# Altium footprint library 42PinJunctionBox.PcbLib: 3 footprints
Each footprint in its own frame and in the unit in brackets; x right, y up, seen from the top. Pads: shape width x height; smd on the part's side, far side on the other; paste and mask are expansions set on the pad; w line width, h text height; cw(c..) or ccw(c..) is an arc to the next point about the centre after c.
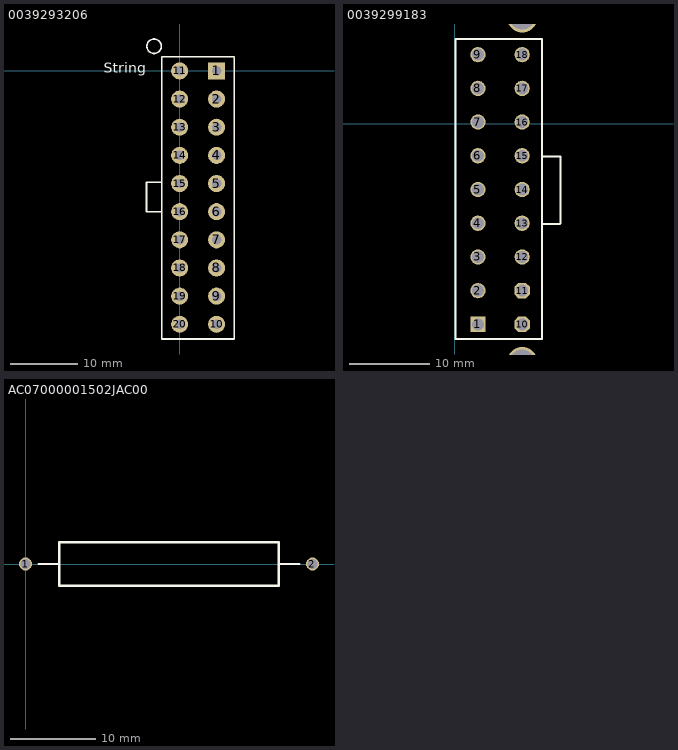
[diagram p0: the footprints below, top view; thin cyan lines are the x and y axes]

## 0039293206 [mil]
pads (20):
  rect 100x100 hole 55: 1(217,0)
  round 100 hole 55: 2(217,-165.4) 3(217,-330.8) 4(217,-496.2) 5(217,-661.6) 6(217,-827) 7(217,-992.4) 8(217,-1157.8) 9(217,-1323.2) 10(217,-1488.6) 11(0,0) 12(0,-165.4) 13(0,-330.8) 14(0,-496.2) 15(0,-661.6) 16(0,-827) 17(0,-992.4) 18(0,-1157.8) 19(0,-1323.2) 20(0,-1488.6)
Top Overlay:
  circle w10: c-150,145 r42.43
  lines w10: -107.57,-827 -195,-827 -195,-655 -105,-655 ; -105,-1575 320,-1575 320,82.7 149.85,82.7 67.15,82.7 -105,82.7 -105,-1575
  text "String" at -445,-10 h60

## 0039299183 [mil]
pads (18):
  rect 75x75 hole 58: 1(113,-985)
  round 75 hole 58: 2(113,-819.6) 3(113,-654.2) 4(113,-488.8) 5(113,-323.4) 6(113,-158) 7(113,7.4) 8(113,172.8) 9(113,338.2) 12(330,-654.2) 13(330,-488.8) 14(330,-323.4) 15(330,-158) 16(330,7.4) 17(330,172.8) 18(330,338.2)
  oct 75x75 hole 58: 10(330,-985) 11(330,-819.6)
via 330,-1170 diameter 150 hole 122
via 330,523 diameter 150 hole 122
Top Overlay:
  lines w10: 428,-491.8 515,-491.8 518,-488.8 518,-161.8 428,-161.8 ; 3,-1056.8 428,-1056.8 428,415 3,415 3,-1056.8

## AC07000001502JAC00 [mil]
pads (2):
  round 60 hole 45: 1(0,0) 2(1319,0)
Top Overlay:
  lines w10: 60,0 155,0 ; 1164,0 1259,0 ; 155,0 155,100 1164,100 1164,-100 155,-100 155,0